# Altium footprint library 2021-03-03_14-05-08.PcbLib: 3 footprints
Each footprint in its own frame and in the unit in brackets; x right, y up, seen from the top. Pads: shape width x height; smd on the part's side, far side on the other; paste and mask are expansions set on the pad; w line width, h text height; cw(c..) or ccw(c..) is an arc to the next point about the centre after c.
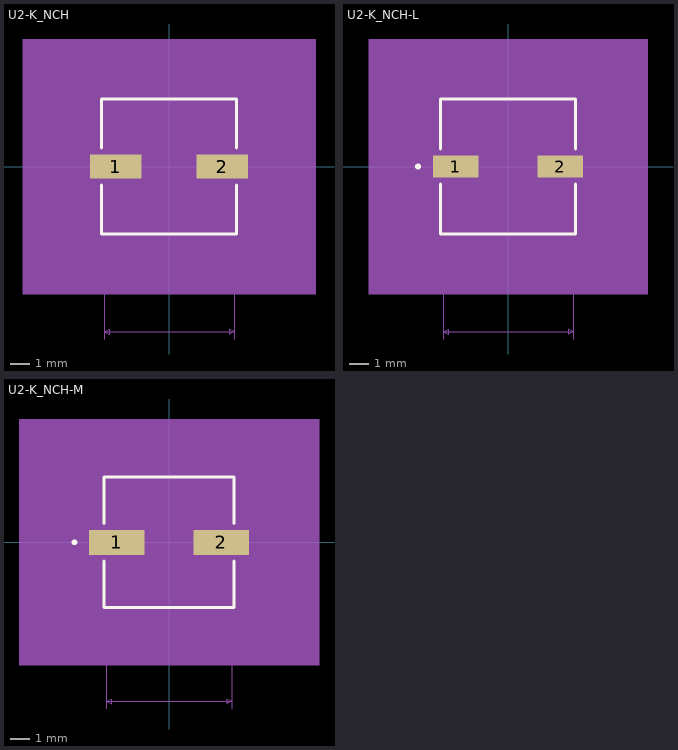
[diagram p0: the footprints below, top view; thin cyan lines are the x and y axes]

## U2-K_NCH [mil]
pads (2):
  rect 103x48 smd paste+0 mask+0: 1(-106.5,0) 2(106.5,0)
Top Overlay:
  lines w6: -135,-37.1 -135,-135 135,-135 135,-37.1 ; -135,37.1 -135,135 135,135 135,37.1
Mechanical 5:
  region: 293,-255 -293,-255 -293,255 293,255
Mechanical 7:
  lines w1: -245,-130 -130,-130 -130,-345 ; -245,130 -130,130 ; -188,-230 -138,-230 ; -138,-245 -138,-34 ; -138,34 -138,245 ; -51,-245 -51,-14 ; -1,-230 -51,-230 ; 130,-345 130,-130 ; 138,34 138,245 ; 168,-16 273,-16 ; 168,16 273,16 ; 258,-66 258,-16 ; 258,66 258,16 ; -230,-130 -230,130 ; -230,-130 -235,-120 -225,-120 -230,-130 ; -230,130 -235,120 -225,120 -230,130 ; -138,-230 -148,-225 -148,-235 -138,-230 ; -138,230 138,230 ; -138,230 -128,235 -128,225 -138,230 ; -130,-330 130,-330 ; -130,-330 -120,-325 -120,-335 -130,-330 ; -51,-230 -41,-225 -41,-235 -51,-230 ; 130,-330 120,-325 120,-335 130,-330 ; 138,230 128,235 128,225 138,230 ; 258,-16 253,-26 263,-26 258,-16 ; 258,16 253,26 263,26 258,16
  text "Default Padstyle: RX103Y48D0T" at -362.5,-451 h50
  text "Alternate 1 Padstyle: OX60Y90D30P" at -412.5,-551 h50
  text "Alternate 2 Padstyle: OX90Y60D30P" at -412.5,-651 h50
  text "0.032in/0.813mm" at 278,-12.5 h25
  text "0.276in/7.01mm" at -87.5,250 h25
  text "0.26in/6.604mm" at -425,-12.5 h25
  text "0.087in/2.21mm" at -182,-275 h25
  text "0.26in/6.604mm" at -87.5,-375 h25
Mechanical 13:
  circle w0: c-110,0 r0
  lines w1: -130,-65 -65,-130 ; -130,65 -65,130 ; -130,-130 130,-130 130,130 -130,130 -130,-130
Mechanical 15:
  region: -140,-34 -168,-34 -168,34 -140,34 -140,140 140,140 140,34 168,34 168,-34 140,-34 140,-140 -140,-140
  lines w6: -168,-34 -168,34 -140,34 -140,140 140,140 140,34 168,34 168,-34 140,-34 140,-140 -140,-140 -140,-34 -168,-34
3D body: height 10, standoff 0, extent 0,0 10,10

## U2-K_NCH-L [mil]
pads (2):
  rect 91x44 smd paste+0 mask+0: 1(-104.5,0) 2(104.5,0)
Top Overlay:
  circle w6: c-180,0 r3
  lines w6: -135,-35.1 -135,-135 135,-135 135,-35.1 ; -135,35.1 -135,135 135,135 135,35.1
Mechanical 5:
  region: 279,-255 -279,-255 -279,255 279,255
Mechanical 7:
  lines w1: -245,-130 -130,-130 -130,-345 ; -245,130 -130,130 ; -188,-230 -138,-230 ; -138,-245 -138,-32 ; -138,32 -138,245 ; -51,-245 -51,-12 ; -1,-230 -51,-230 ; 130,-345 130,-130 ; 138,32 138,245 ; 160,-16 265,-16 ; 160,16 265,16 ; 250,-66 250,-16 ; 250,66 250,16 ; -230,-130 -230,130 ; -230,-130 -235,-120 -225,-120 -230,-130 ; -230,130 -235,120 -225,120 -230,130 ; -138,-230 -148,-225 -148,-235 -138,-230 ; -138,230 138,230 ; -138,230 -128,235 -128,225 -138,230 ; -130,-330 130,-330 ; -130,-330 -120,-325 -120,-335 -130,-330 ; -51,-230 -41,-225 -41,-235 -51,-230 ; 130,-330 120,-325 120,-335 130,-330 ; 138,230 128,235 128,225 138,230 ; 250,-16 245,-26 255,-26 250,-16 ; 250,16 245,26 255,26 250,16
  text "Default Padstyle: RX91Y44D0T" at -350,-453 h50
  text "Alternate 1 Padstyle: OX60Y90D30P" at -412.5,-553 h50
  text "Alternate 2 Padstyle: OX90Y60D30P" at -412.5,-653 h50
  text "0.032in/0.813mm" at 270,-12.5 h25
  text "0.276in/7.01mm" at -87.5,250 h25
  text "0.26in/6.604mm" at -425,-12.5 h25
  text "0.087in/2.21mm" at -182,-275 h25
  text "0.26in/6.604mm" at -87.5,-375 h25
Mechanical 13:
  circle w0: c-110,0 r3
  lines w1: -130,-65 -65,-130 ; -130,65 -65,130 ; -130,-130 130,-130 130,130 -130,130 -130,-130
Mechanical 15:
  region: -134,-26 -154,-26 -154,26 -134,26 -134,134 134,134 134,26 154,26 154,-26 134,-26 134,-134 -134,-134
  lines w6: -154,-26 -154,26 -134,26 -134,134 134,134 134,26 154,26 154,-26 134,-26 134,-134 -134,-134 -134,-26 -154,-26
3D body: height 10, standoff 0, extent 0,0 10,10

## U2-K_NCH-M [mil]
pads (2):
  rect 115x52 smd paste+0 mask+0: 1(-108.5,0) 2(108.5,0)
Top Overlay:
  circle w6: c-196,0 r3
  lines w6: -135,-39.1 -135,-135 135,-135 135,-39.1 ; -135,39.1 -135,135 135,135 135,39.1
Mechanical 5:
  region: 311,-255 -311,-255 -311,255 311,255
Mechanical 7:
  lines w1: -245,-130 -130,-130 -130,-345 ; -245,130 -130,130 ; -188,-230 -138,-230 ; -138,-245 -138,-36 ; -138,36 -138,245 ; -51,-245 -51,-16 ; -1,-230 -51,-230 ; 130,-345 130,-130 ; 138,36 138,245 ; 176,-16 281,-16 ; 176,16 281,16 ; 266,-66 266,-16 ; 266,66 266,16 ; -230,-130 -230,130 ; -230,-130 -235,-120 -225,-120 -230,-130 ; -230,130 -235,120 -225,120 -230,130 ; -138,-230 -148,-225 -148,-235 -138,-230 ; -138,230 138,230 ; -138,230 -128,235 -128,225 -138,230 ; -130,-330 130,-330 ; -130,-330 -120,-325 -120,-335 -130,-330 ; -51,-230 -41,-225 -41,-235 -51,-230 ; 130,-330 120,-325 120,-335 130,-330 ; 138,230 128,235 128,225 138,230 ; 266,-16 261,-26 271,-26 266,-16 ; 266,16 261,26 271,26 266,16
  text "Default Padstyle: RX115Y52D0T" at -362.5,-449 h50
  text "Alternate 1 Padstyle: OX60Y90D30P" at -412.5,-549 h50
  text "Alternate 2 Padstyle: OX90Y60D30P" at -412.5,-649 h50
  text "0.032in/0.813mm" at 286,-12.5 h25
  text "0.276in/7.01mm" at -87.5,250 h25
  text "0.26in/6.604mm" at -425,-12.5 h25
  text "0.087in/2.21mm" at -182,-275 h25
  text "0.26in/6.604mm" at -87.5,-375 h25
Mechanical 13:
  circle w0: c-110,0 r3
  lines w1: -130,-65 -65,-130 ; -130,65 -65,130 ; -130,-130 130,-130 130,130 -130,130 -130,-130
Mechanical 15:
  region: -150,-46 -186,-46 -186,46 -150,46 -150,150 150,150 150,46 186,46 186,-46 150,-46 150,-150 -150,-150
  lines w6: -186,-46 -186,46 -150,46 -150,150 150,150 150,46 186,46 186,-46 150,-46 150,-150 -150,-150 -150,-46 -186,-46
3D body: height 10, standoff 0, extent 0,0 10,10